# Altium footprint library SC70-6.PcbLib: 1 footprints
Each footprint in its own frame and in the unit in brackets; x right, y up, seen from the top. Pads: shape width x height; smd on the part's side, far side on the other; paste and mask are expansions set on the pad; w line width, h text height; cw(c..) or ccw(c..) is an arc to the next point about the centre after c.
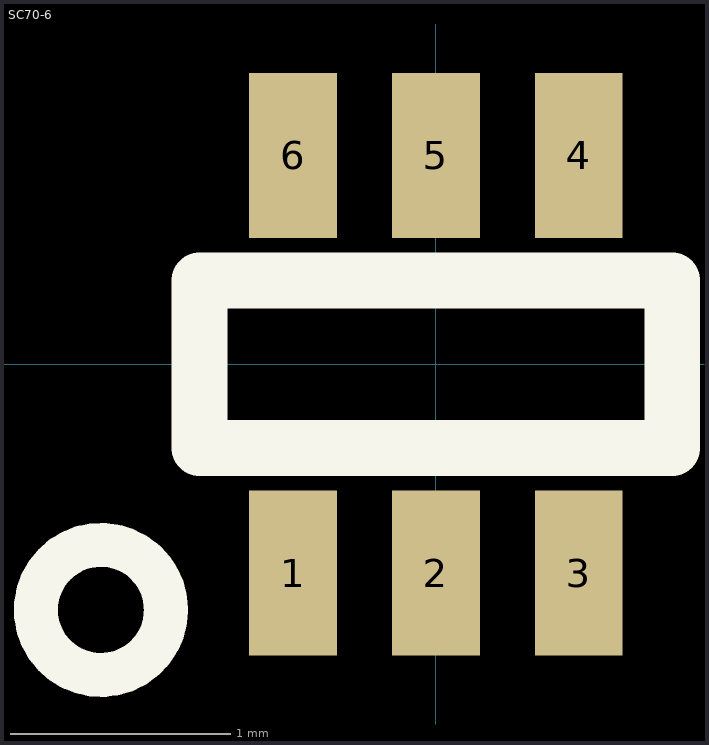
[diagram p0: the footprint, top view; thin cyan lines are the x and y axes]

## SC70-6 [mm]
height 1.1
pads (6):
  rect 0.4x0.75 smd: 1(-0.65,-0.95) 2(0,-0.95) 3(0.65,-0.95) 4(0.65,0.95) 5(0,0.95) 6(-0.65,0.95)
Top Overlay:
  circle w0.2: c-1.524,-1.118 r0.296
  lines w0.254: -1.075,-0.381 -1.075,0.381 1.075,0.381 1.075,-0.381 -1.075,-0.381
3D body: height 0.92, standoff -0.03, extent -0.984,-1.025 1.016,1.075